# Altium footprint library DIP762W51P254L1537H483Q12_SMT.PcbLib: 1 footprints
Each footprint in its own frame and in the unit in brackets; x right, y up, seen from the top. Pads: shape width x height; smd on the part's side, far side on the other; paste and mask are expansions set on the pad; w line width, h text height; cw(c..) or ccw(c..) is an arc to the next point about the centre after c.
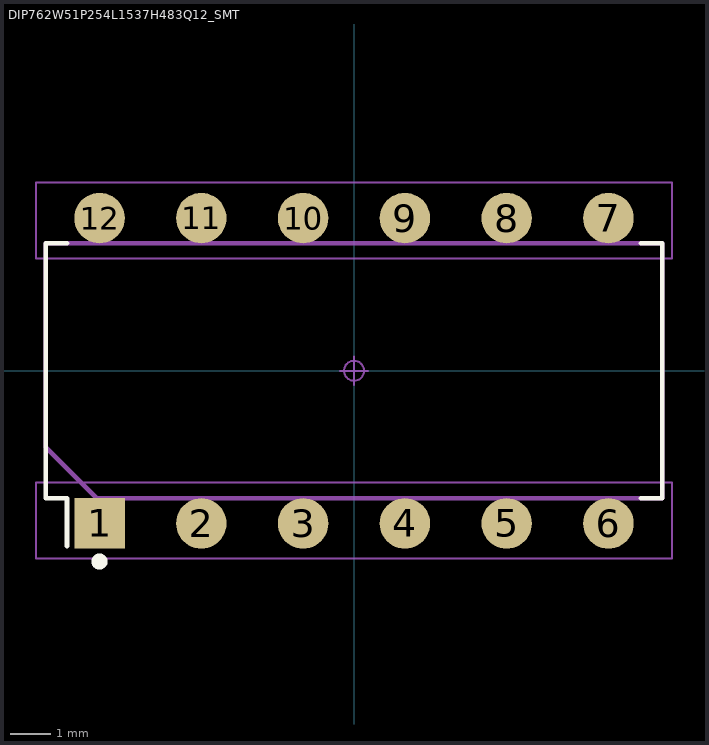
[diagram p0: the footprint, top view; thin cyan lines are the x and y axes]

## DIP762W51P254L1537H483Q12_SMT [mm] "DIP, 7.62 mm lead span, 2.54 mm pitch; 12 pin, 15.37 mm L X 6.35 mm W X 4.83 mm H body"
height 4.83
pads (12):
  rect 1.26x1.26 smd paste-1.26: 1(-6.35,-3.81)
  round 1.26 smd paste-1.26: 2(-3.81,-3.81) 3(-1.27,-3.81) 4(1.27,-3.81) 5(3.81,-3.81) 6(6.35,-3.81) 7(6.35,3.81) 8(3.81,3.81) 9(1.27,3.81) 10(-1.27,3.81) 11(-3.81,3.81) 12(-6.35,3.81)
Top Overlay:
  circle w0.2: c-6.35,-4.76 r0.1
  lines w0.12: -7.16,-4.38 -7.16,-3.18 -7.69,-3.18 -7.69,3.18 -7.16,3.18 ; 7.16,-3.18 7.69,-3.18 7.69,3.18 7.16,3.18
Fab - Detail1, HDI1:
  lines w0.12: -7.69,-1.91 -6.42,-3.18 7.69,-3.18 7.69,3.18 -7.69,3.18 -7.69,-1.91
Courtyards/Models - Top:
  circle w0.05: c0,0 r0.25
  lines w0.05: -0.35,0 0.35,0 ; 0,-0.35 0,0.35 ; -7.94,-4.69 -7.94,-2.794 7.94,-2.794 7.94,-4.69 -7.94,-4.69 ; -7.94,2.803 7.94,2.803 7.94,4.699 -7.94,4.699 -7.94,2.803